# EAGLE library part 74*244 (library Jordi)
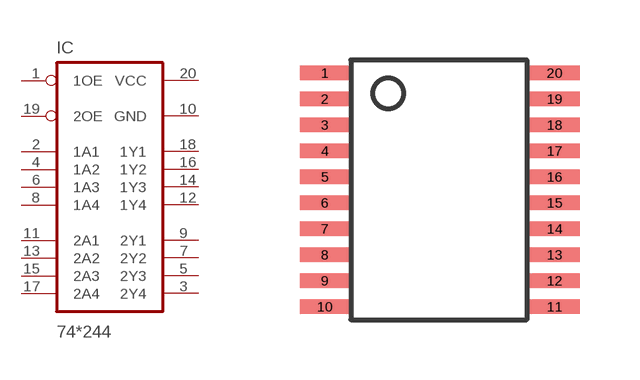
[diagram p15: symbol with the pads of TSSOP-20; footprint TSSOP-20]

Designator prefix IC

## 74244TSSOP  [TSSOP-20]
1  1OE
2  1A1
3  2Y4  hiz
4  1A2
5  2Y3  hiz
6  1A3
7  2Y2  hiz
8  1A4
9  2Y1  hiz
10  GND  pwr
11  2A1
12  1Y4  hiz
13  2A2
14  1Y3  hiz
15  2A3
16  1Y2  hiz
17  2A4
18  1Y1  hiz
19  2OE
20  VCC  pwr

## Footprint TSSOP-20 (pad centres in mm)
smd 1.26 x 0.36: 1 -2.85,2.925; 2 -2.85,2.275; 3 -2.85,1.625; 4 -2.85,0.975; 5 -2.85,0.325; 6 -2.85,-0.325; 7 -2.85,-0.975; 8 -2.85,-1.625; 9 -2.85,-2.275; 10 -2.85,-2.925; 11 2.9,-2.925; 12 2.9,-2.275; 13 2.9,-1.625; 14 2.9,-0.975; 15 2.9,-0.325; 16 2.9,0.325; 17 2.9,0.975; 18 2.9,1.625; 19 2.9,2.275; 20 2.9,2.925